# Altium schematic symbol library SI53362.SchLib: 1 symbol
Pins are listed as number, name and electrical type; pins without a type are passive.

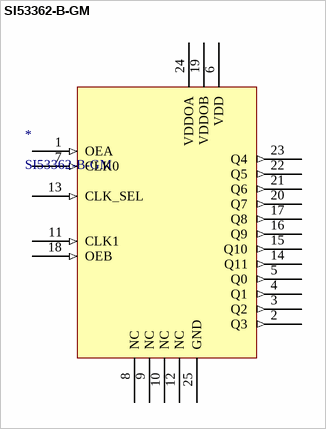
[diagram p0: symbol SI53362-B-GM]

## SI53362-B-GM
designator *
Clock Buffer LVCMOS 2:12 buffer (200MHz), 2:1 LVCMOS input max, output enable (QFN24); Supplier 1: Mouser; Supplier Part Number 1: 634-SI53362-B-GM
footprint Si53362 (2:12 CMOS BUFFER (200MHZ), 2:1 L)
pins: 1 OEA (in), 2 Q3 (out), 3 Q2 (out), 4 Q1 (out), 5 Q0 (out), 6 VDD (power), 7 CLK0 (in), 8 NC, 9 NC, 10 NC, 11 CLK1 (in), 12 NC, 13 CLK_SEL (in), 14 Q11 (out), 15 Q10 (out), 16 Q9 (out), 17 Q8 (out), 18 OEB (in), 19 VDDOB (power), 20 Q7 (out), 21 Q6 (out), 22 Q5 (out), 23 Q4 (out), 24 VDDOA (power), 25 GND